# Altium footprint library Components.PcbLib: 5 footprints
Each footprint in its own frame and in the unit in brackets; x right, y up, seen from the top. Pads: shape width x height; smd on the part's side, far side on the other; paste and mask are expansions set on the pad; w line width, h text height; cw(c..) or ccw(c..) is an arc to the next point about the centre after c.
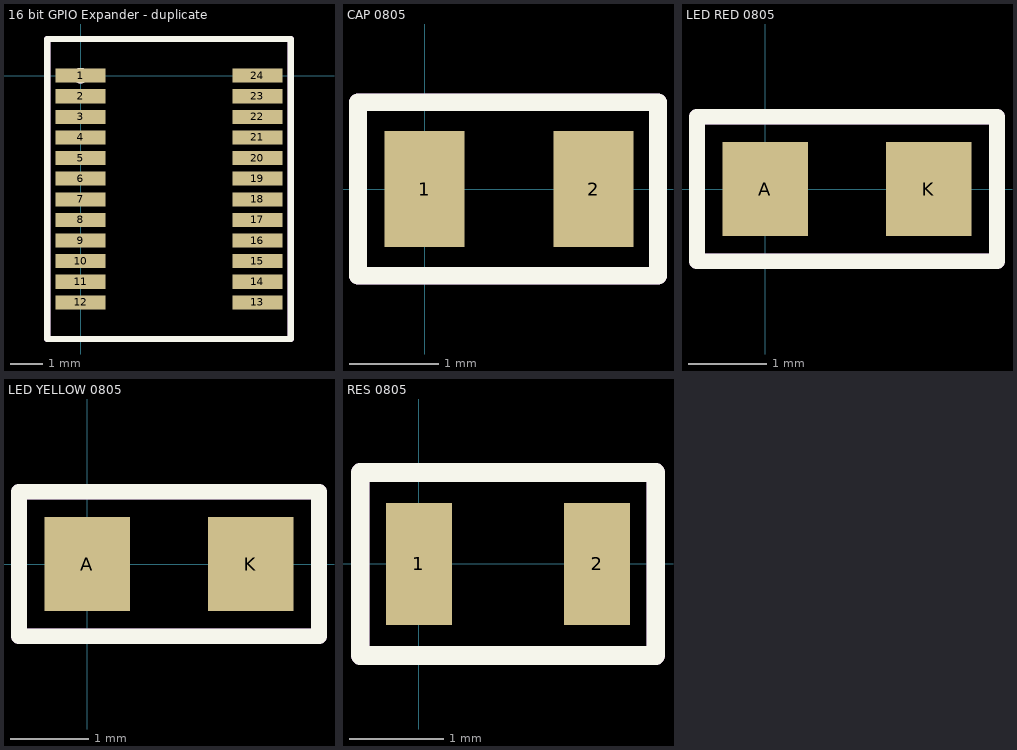
[diagram p0: the footprints below, top view; thin cyan lines are the x and y axes]

## 16 bit GPIO Expander - duplicate [mm] "SOP64P602X175-24N"
pads (24):
  rect 1.55x0.435 smd: 1(0,0) 2(0,-0.634) 3(0,-1.27) 4(0,-1.904) 5(0,-2.54) 6(0,-3.174) 7(0,-3.81) 8(0,-4.444) 9(0,-5.08) 10(0,-5.714) 11(0,-6.35) 12(0,-6.984) 13(5.45,-6.984) 14(5.45,-6.35) 15(5.45,-5.714) 16(5.45,-5.08) 17(5.45,-4.444) 18(5.45,-3.81) 19(5.45,-3.174) 20(5.45,-2.54) 21(5.45,-1.904) 22(5.45,-1.27) 23(5.45,-0.634) 24(5.45,0)
Top Overlay:
  circle w0.254: c0,0 r0.112
  lines w0.2: -1.025,-8.112 -1.025,1.128 6.475,1.128 6.475,-8.112 -1.025,-8.112
Mechanical 29:
  circle w0.254: c0,0 r0.112
  lines w0.2: -1.025,-8.112 -1.025,1.128 6.475,1.128 6.475,-8.112 -1.025,-8.112
  text "'.Designator'" at 2.225,-3.706 h1.52
3D body "MAX7313AEG+.stp": height 1.75, standoff 0, extent -0.285,-7.817 5.735,0.833

## CAP 0805 [mm]
pads (2):
  rect 0.9x1.3 smd: 1(0,0) 2(1.9,0)
Top Overlay:
  lines w0.2: -0.75,-0.975 2.625,-0.975 2.625,0.975 -0.75,0.975 -0.75,-0.975
Mechanical 29:
  lines w0.2: -0.75,-0.975 -0.75,0.975 2.625,0.975 2.625,-0.975 -0.75,-0.975
  text "'.Designator'" at 0.325,-0.375 h1.2
3D body "CAP-0805.STEP": height 1.01, standoff 0.01, extent -0.05,-0.625 1.95,0.625

## LED RED 0805 [mm]
pads (2):
  rect 1.1x1.2 smd: A(0,0) K(2.1,0)
Top Overlay:
  circle w0.254: c0,0 r0.071
  lines w0.2: -0.875,-0.925 -0.875,0.925 2.975,0.925 2.975,-0.925 -0.875,-0.925
Mechanical 29:
  circle w0.254: c0,0 r0.071
  lines w0.2: -0.875,-0.925 2.975,-0.925 2.975,0.925 -0.875,0.925 -0.875,-0.925
  text "'.Designator'" at 0.575,-0.4 h1.2
3D body "RED LED-0805.STEP": height 0.81, standoff 0.01, extent 0,-0.675 2.1,0.675

## LED YELLOW 0805 [mm]
pads (2):
  rect 1.1x1.2 smd: A(0,0) K(2.1,0)
Top Overlay:
  circle w0.254: c0,0 r0.071
  lines w0.2: -0.875,-0.925 -0.875,0.925 2.975,0.925 2.975,-0.925 -0.875,-0.925
Mechanical 29:
  circle w0.254: c0,0 r0.071
  lines w0.2: -0.875,-0.925 2.975,-0.925 2.975,0.925 -0.875,0.925 -0.875,-0.925
  text "'.Designator'" at 0.575,-0.4 h1.2
3D body "YELLOW LED-0805.STEP": height 0.81, standoff 0.01, extent 0,-0.675 2.1,0.675

## RES 0805 [mm]
pads (2):
  rect 0.7x1.3 smd: 1(0,0) 2(1.9,0)
Top Overlay:
  lines w0.2: -0.625,-0.975 -0.625,0.975 ; -0.625,-0.975 2.525,-0.975 -0.625,-0.975 ; -0.625,-0.975 -0.625,0.975 ; -0.625,0.975 2.525,0.975 -0.625,0.975 ; 2.525,-0.95 2.525,0.95 2.525,-0.95
Mechanical 29:
  lines w0.2: -0.625,-0.975 -0.625,0.975 ; -0.625,-0.975 2.525,-0.975 -0.625,-0.975 ; -0.625,-0.975 -0.625,0.975 ; -0.625,0.975 2.525,0.975 -0.625,0.975 ; 2.525,-0.95 2.525,0.95 2.525,-0.95
  text "'.Designator'" at 0.4,-0.35 h1.2
3D body "RES-0805.STEP": height 0.77, standoff 0.01, extent -0.2,-0.675 2.1,0.675